# EAGLE library part TLC550 (library texas-jlb)
UART/FIFO
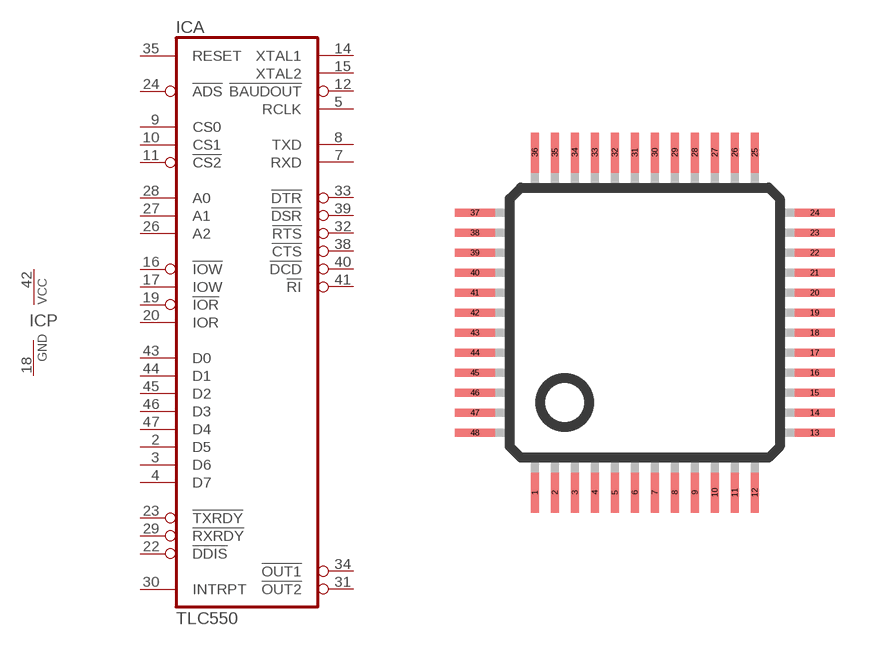
[diagram p0: symbol with the pads of LQFP48; footprint LQFP48]

Designator prefix IC; gates P=PWRN A=TL16C550

## TLC550PT  [LQFP48]
2  A:D5
3  A:D6
4  A:D7
5  A:RCLK  in
7  A:RXD  in
8  A:TXD  out
9  A:CS0  in
10  A:CS1  in
11  A:!CS2  in
12  A:!BAUDOUT  out
14  A:XTAL1  in
15  A:XTAL2  in
16  A:!IOW  in
17  A:IOW  in
18  P:GND  pwr
19  A:!IOR  in
20  A:IOR  in
22  A:!DDIS  out
23  A:!TXRDY  out
24  A:!ADS  in
26  A:A2  in
27  A:A1  in
28  A:A0  in
29  A:!RXRDY  out
30  A:INTRPT  out
31  A:!OUT2  out
32  A:!RTS  out
33  A:!DTR  out
34  A:!OUT1  out
35  A:RESET  in
38  A:!CTS  in
39  A:!DSR  in
40  A:!DCD  in
41  A:!RI  in
42  P:VCC  pwr
43  A:D0
44  A:D1
45  A:D2
46  A:D3
47  A:D4

## Footprint LQFP48 (pad centres in mm)
48-pin plastic LQFP (FPT-48P-M26) www.fma.fujitsu.com/pdf/e713717.pdf
smd 0.2 x 1: 1 -2.75,-4.25; 2 -2.25,-4.25; 3 -1.75,-4.25; 4 -1.25,-4.25; 5 -0.75,-4.25; 6 -0.25,-4.25; 7 0.25,-4.25; 8 0.75,-4.25; 9 1.25,-4.25; 10 1.75,-4.25; 11 2.25,-4.25; 12 2.75,-4.25; 25 2.75,4.25; 26 2.25,4.25; 27 1.75,4.25; 28 1.25,4.25; 29 0.75,4.25; 30 0.25,4.25; 31 -0.25,4.25; 32 -0.75,4.25; 33 -1.25,4.25; 34 -1.75,4.25; 35 -2.25,4.25; 36 -2.75,4.25
smd 1 x 0.2: 13 4.25,-2.75; 14 4.25,-2.25; 15 4.25,-1.75; 16 4.25,-1.25; 17 4.25,-0.75; 18 4.25,-0.25; 19 4.25,0.25; 20 4.25,0.75; 21 4.25,1.25; 22 4.25,1.75; 23 4.25,2.25; 24 4.25,2.75; 37 -4.25,2.75; 38 -4.25,2.25; 39 -4.25,1.75; 40 -4.25,1.25; 41 -4.25,0.75; 42 -4.25,0.25; 43 -4.25,-0.25; 44 -4.25,-0.75; 45 -4.25,-1.25; 46 -4.25,-1.75; 47 -4.25,-2.25; 48 -4.25,-2.75